# Altium footprint library TLRH3AWTTER100F.PcbLib: 3 footprints
Each footprint in its own frame and in the unit in brackets; x right, y up, seen from the top. Pads: shape width x height; smd on the part's side, far side on the other; paste and mask are expansions set on the pad; w line width, h text height; cw(c..) or ccw(c..) is an arc to the next point about the centre after c.
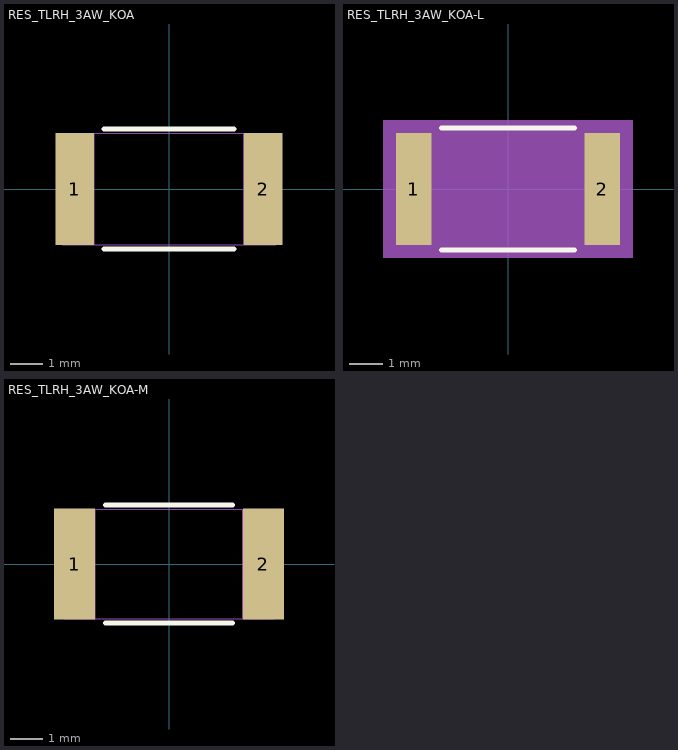
[diagram p0: the footprints below, top view; thin cyan lines are the x and y axes]

## RES_TLRH_3AW_KOA [mil]
pads (2):
  rect 46x134 smd paste+0 mask+0: 1(-113,0) 2(113,0)
Top Overlay:
  lines w6: -77.89,-72 77.89,-72 ; -77.89,72 77.89,72
Mechanical 13:
  lines w1: -128,-67 -128,67 ; -128,-67 128,-67 ; -128,-67 -90,-67 -90,67 -128,67 ; -128,-67 -128,67 ; -128,67 128,67 ; 128,-67 128,67 ; 128,-67 128,67 ; 128,-67 90,-67 90,67 128,67
3D body "RES_TLRH_3AW_KOA.step": height 27.99, standoff 0, extent -127.99,-67.01 127.99,67.01

## RES_TLRH_3AW_KOA-L [mil]
pads (2):
  rect 42x132 smd paste+0 mask+0: 1(-111,0) 2(111,0)
Top Overlay:
  lines w6: -78.35,-72 78.35,-72 ; -78.35,72 78.35,72
Mechanical 5:
  region: 147,-81 -147,-81 -147,81 147,81
Mechanical 13:
  lines w1: -128,-67 -128,67 ; -128,-67 -90,-67 -90,67 -128,67 ; -128,-67 128,-67 ; -128,-67 -128,67 ; -128,67 128,67 ; 128,-67 90,-67 90,67 128,67 ; 128,-67 128,67 ; 128,-67 128,67
Mechanical 15:
  region: 136,-70 -136,-70 -136,70 136,70
  lines w6: -136,-70 -136,70 136,70 136,-70 -136,-70
3D body "RES_TLRH_3AW_KOA.step": height 27.99, standoff 0, extent -127.99,-67.01 127.99,67.01

## RES_TLRH_3AW_KOA-M [mil]
pads (2):
  rect 50x136 smd paste+0 mask+0: 1(-115,0) 2(115,0)
Top Overlay:
  lines w6: -77.53,-72 77.53,-72 ; -77.53,72 77.53,72
Mechanical 13:
  lines w1: -128,-67 -128,67 ; -128,-67 128,-67 ; -128,-67 -90,-67 -90,67 -128,67 ; -128,-67 -128,67 ; -128,67 128,67 ; 128,-67 128,67 ; 128,-67 128,67 ; 128,-67 90,-67 90,67 128,67
3D body "RES_TLRH_3AW_KOA.step": height 27.99, standoff 0, extent -127.99,-67.01 127.99,67.01